# Altium footprint library Capacitor Electrolytic Snap-In.PcbLib: 32 footprints (part 1 of 2)
Each footprint in its own frame and in the unit in brackets; x right, y up, seen from the top. Pads: shape width x height; smd on the part's side, far side on the other; paste and mask are expansions set on the pad; w line width, h text height; cw(c..) or ccw(c..) is an arc to the next point about the centre after c.
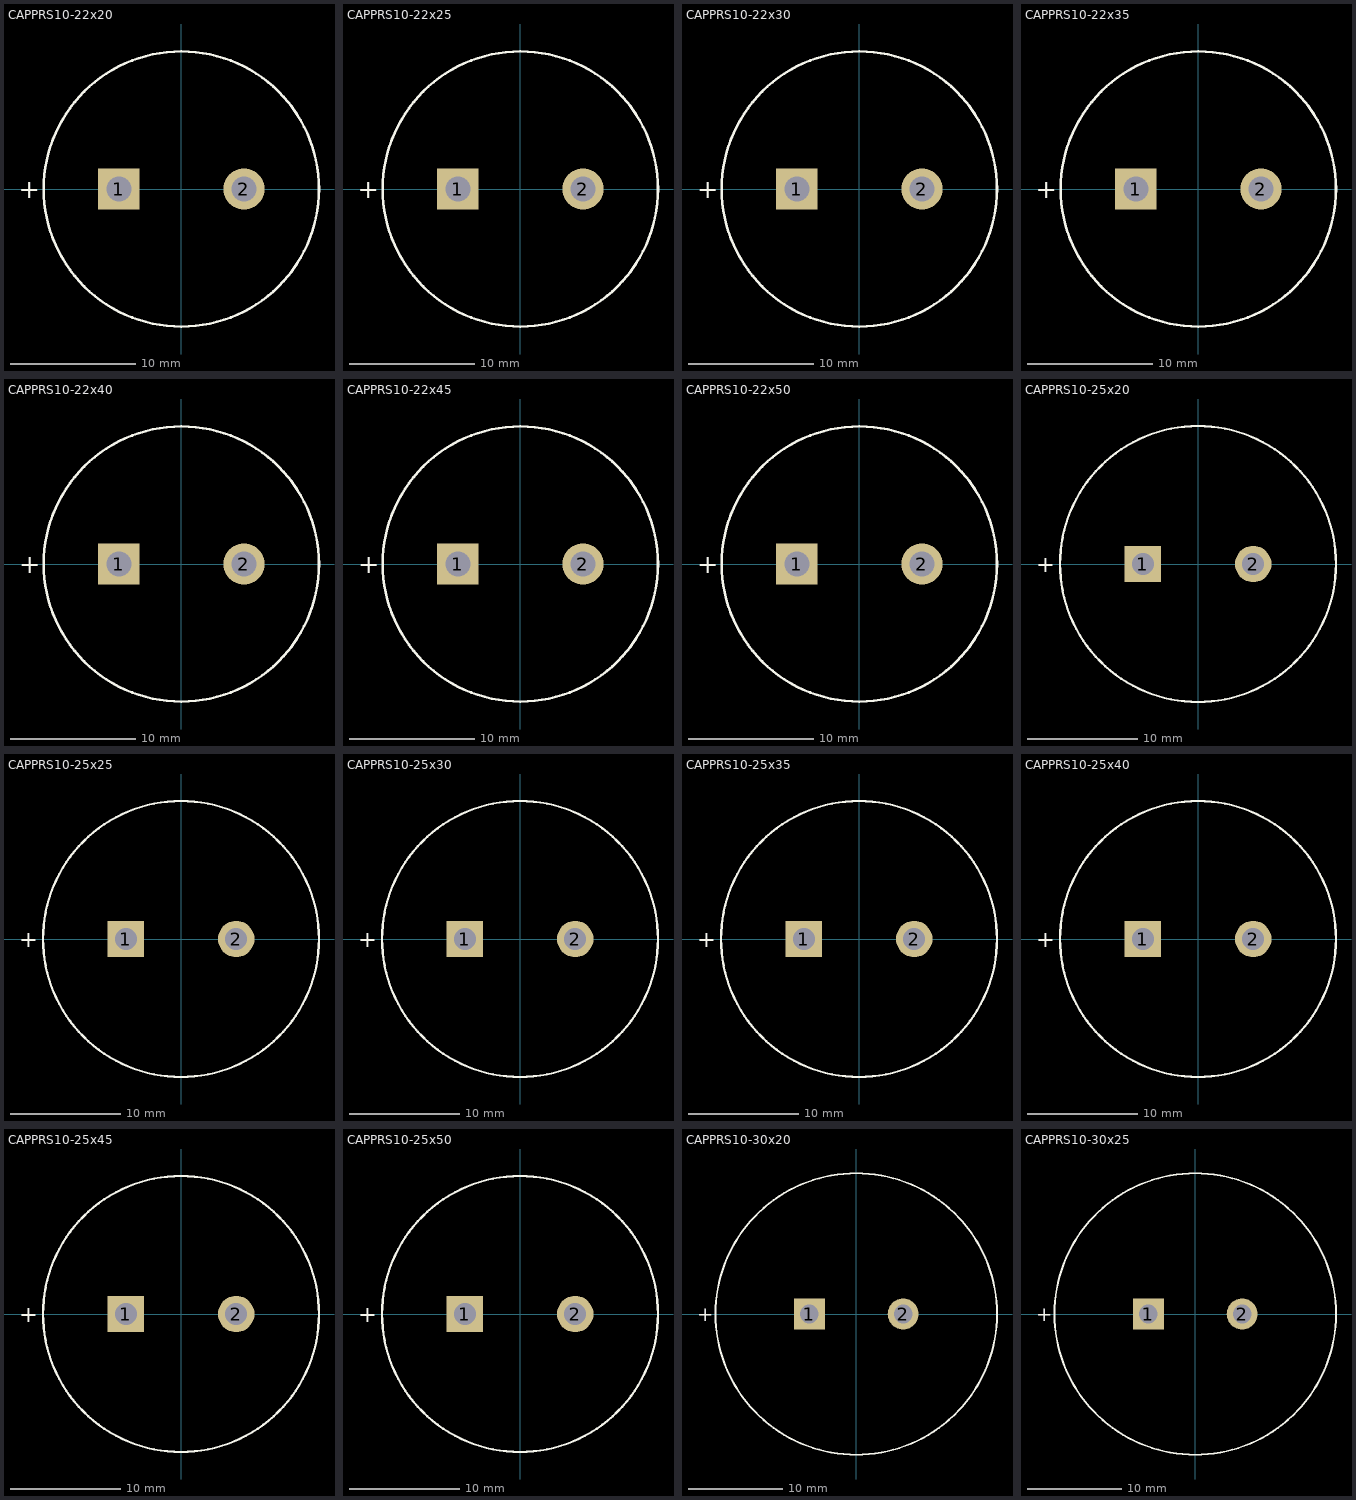
[diagram p0: the footprints below, top view; thin cyan lines are the x and y axes]

## CAPPRS10-22x20 [mm] "Capacitor, Electrolytic, Radial, Snap-In Pins; Body 22 x 20 mm (Dia.xH typ); Pin Spacing 10 mm (typ)"
height 22
pads (2):
  rect 3.3x3.3 hole 2: 1(-5,0)
  round 3.3 hole 2: 2(5,0)
Top Overlay:
  circle w0.2: c0,0 r11
  text "+" at -12.975,-0.75 h1.5

## CAPPRS10-22x25 [mm] "Capacitor, Electrolytic, Radial, Snap-In Pins; Body 22 x 25 mm (Dia.xH typ); Pin Spacing 10 mm (typ)"
height 27
pads (2):
  rect 3.3x3.3 hole 2: 1(-5,0)
  round 3.3 hole 2: 2(5,0)
Top Overlay:
  circle w0.2: c0,0 r11
  text "+" at -12.975,-0.75 h1.5

## CAPPRS10-22x30 [mm] "Capacitor, Electrolytic, Radial, Snap-In Pins; Body 22 x 30 mm (Dia.xH typ); Pin Spacing 10 mm (typ)"
height 32
pads (2):
  rect 3.3x3.3 hole 2: 1(-5,0)
  round 3.3 hole 2: 2(5,0)
Top Overlay:
  circle w0.2: c0,0 r11
  text "+" at -12.975,-0.75 h1.5

## CAPPRS10-22x35 [mm] "Capacitor, Electrolytic, Radial, Snap-In Pins; Body 22 x 35 mm (Dia.xH typ); Pin Spacing 10 mm (typ)"
height 37
pads (2):
  rect 3.3x3.3 hole 2: 1(-5,0)
  round 3.3 hole 2: 2(5,0)
Top Overlay:
  circle w0.2: c0,0 r11
  text "+" at -12.975,-0.75 h1.5

## CAPPRS10-22x40 [mm] "Capacitor, Electrolytic, Radial, Snap-In Pins; Body 22 x 40 mm (Dia.xH typ); Pin Spacing 10 mm (typ)"
height 42
pads (2):
  rect 3.3x3.3 hole 2: 1(-5,0)
  round 3.3 hole 2: 2(5,0)
Top Overlay:
  circle w0.2: c0,0 r11
  text "+" at -12.975,-0.75 h1.5

## CAPPRS10-22x45 [mm] "Capacitor, Electrolytic, Radial, Snap-In Pins; Body 22 x 45 mm (Dia.xH typ); Pin Spacing 10 mm (typ)"
height 47
pads (2):
  rect 3.3x3.3 hole 2: 1(-5,0)
  round 3.3 hole 2: 2(5,0)
Top Overlay:
  circle w0.2: c0,0 r11
  text "+" at -12.975,-0.75 h1.5

## CAPPRS10-22x50 [mm] "Capacitor, Electrolytic, Radial, Snap-In Pins; Body 22 x 50 mm (Dia.xH typ); Pin Spacing 10 mm (typ)"
height 52
pads (2):
  rect 3.3x3.3 hole 2: 1(-5,0)
  round 3.3 hole 2: 2(5,0)
Top Overlay:
  circle w0.2: c0,0 r11
  text "+" at -12.975,-0.75 h1.5

## CAPPRS10-25x20 [mm] "Capacitor, Electrolytic, Radial, Snap-In Pins; Body 25 x 20 mm (Dia.xH typ); Pin Spacing 10 mm (typ)"
height 22
pads (2):
  rect 3.3x3.3 hole 2: 1(-5,0)
  round 3.3 hole 2: 2(5,0)
Top Overlay:
  circle w0.2: c0,0 r12.5
  text "+" at -14.675,-0.75 h1.5

## CAPPRS10-25x25 [mm] "Capacitor, Electrolytic, Radial, Snap-In Pins; Body 25 x 25 mm (Dia.xH typ); Pin Spacing 10 mm (typ)"
height 27
pads (2):
  rect 3.3x3.3 hole 2: 1(-5,0)
  round 3.3 hole 2: 2(5,0)
Top Overlay:
  circle w0.2: c0,0 r12.5
  text "+" at -14.675,-0.75 h1.5

## CAPPRS10-25x30 [mm] "Capacitor, Electrolytic, Radial, Snap-In Pins; Body 25 x 30 mm (Dia.xH typ); Pin Spacing 10 mm (typ)"
height 32
pads (2):
  rect 3.3x3.3 hole 2: 1(-5,0)
  round 3.3 hole 2: 2(5,0)
Top Overlay:
  circle w0.2: c0,0 r12.5
  text "+" at -14.675,-0.75 h1.5

## CAPPRS10-25x35 [mm] "Capacitor, Electrolytic, Radial, Snap-In Pins; Body 25 x 35 mm (Dia.xH typ); Pin Spacing 10 mm (typ)"
height 37
pads (2):
  rect 3.3x3.3 hole 2: 1(-5,0)
  round 3.3 hole 2: 2(5,0)
Top Overlay:
  circle w0.2: c0,0 r12.5
  text "+" at -14.675,-0.75 h1.5

## CAPPRS10-25x40 [mm] "Capacitor, Electrolytic, Radial, Snap-In Pins; Body 25 x 40 mm (Dia.xH typ); Pin Spacing 10 mm (typ)"
height 42
pads (2):
  rect 3.3x3.3 hole 2: 1(-5,0)
  round 3.3 hole 2: 2(5,0)
Top Overlay:
  circle w0.2: c0,0 r12.5
  text "+" at -14.675,-0.75 h1.5

## CAPPRS10-25x45 [mm] "Capacitor, Electrolytic, Radial, Snap-In Pins; Body 25 x 45 mm (Dia.xH typ); Pin Spacing 10 mm (typ)"
height 47
pads (2):
  rect 3.3x3.3 hole 2: 1(-5,0)
  round 3.3 hole 2: 2(5,0)
Top Overlay:
  circle w0.2: c0,0 r12.5
  text "+" at -14.675,-0.75 h1.5

## CAPPRS10-25x50 [mm] "Capacitor, Electrolytic, Radial, Snap-In Pins; Body 25 x 50 mm (Dia.xH typ); Pin Spacing 10 mm (typ)"
height 52
pads (2):
  rect 3.3x3.3 hole 2: 1(-5,0)
  round 3.3 hole 2: 2(5,0)
Top Overlay:
  circle w0.2: c0,0 r12.5
  text "+" at -14.675,-0.75 h1.5

## CAPPRS10-30x20 [mm] "Capacitor, Electrolytic, Radial, Snap-In Pins; Body 30 x 20 mm (Dia.xH typ); Pin Spacing 10 mm (typ)"
height 22
pads (2):
  rect 3.3x3.3 hole 2: 1(-5,0)
  round 3.3 hole 2: 2(5,0)
Top Overlay:
  circle w0.2: c0,0 r15
  text "+" at -16.975,-0.75 h1.5

## CAPPRS10-30x25 [mm] "Capacitor, Electrolytic, Radial, Snap-In Pins; Body 30 x 25 mm (Dia.xH typ); Pin Spacing 10 mm (typ)"
height 27
pads (2):
  rect 3.3x3.3 hole 2: 1(-5,0)
  round 3.3 hole 2: 2(5,0)
Top Overlay:
  circle w0.2: c0,0 r15
  text "+" at -16.975,-0.75 h1.5